# Altium schematic symbol library SJ-2523-SMT-TR.Schlib: 1 symbol
Pins are listed as number, name and electrical type; pins without a type are passive.

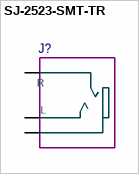
[diagram p0: symbol SJ-2523-SMT-TR]

## SJ-2523-SMT-TR
designator J?
pins: 1 GND, 2 L, 3 R